# Altium footprint library 8通道刺激仪.PcbLib: 36 footprints (part 2 of 3)
Each footprint in its own frame and in the unit in brackets; x right, y up, seen from the top. Pads: shape width x height; smd on the part's side, far side on the other; paste and mask are expansions set on the pad; w line width, h text height; cw(c..) or ccw(c..) is an arc to the next point about the centre after c.
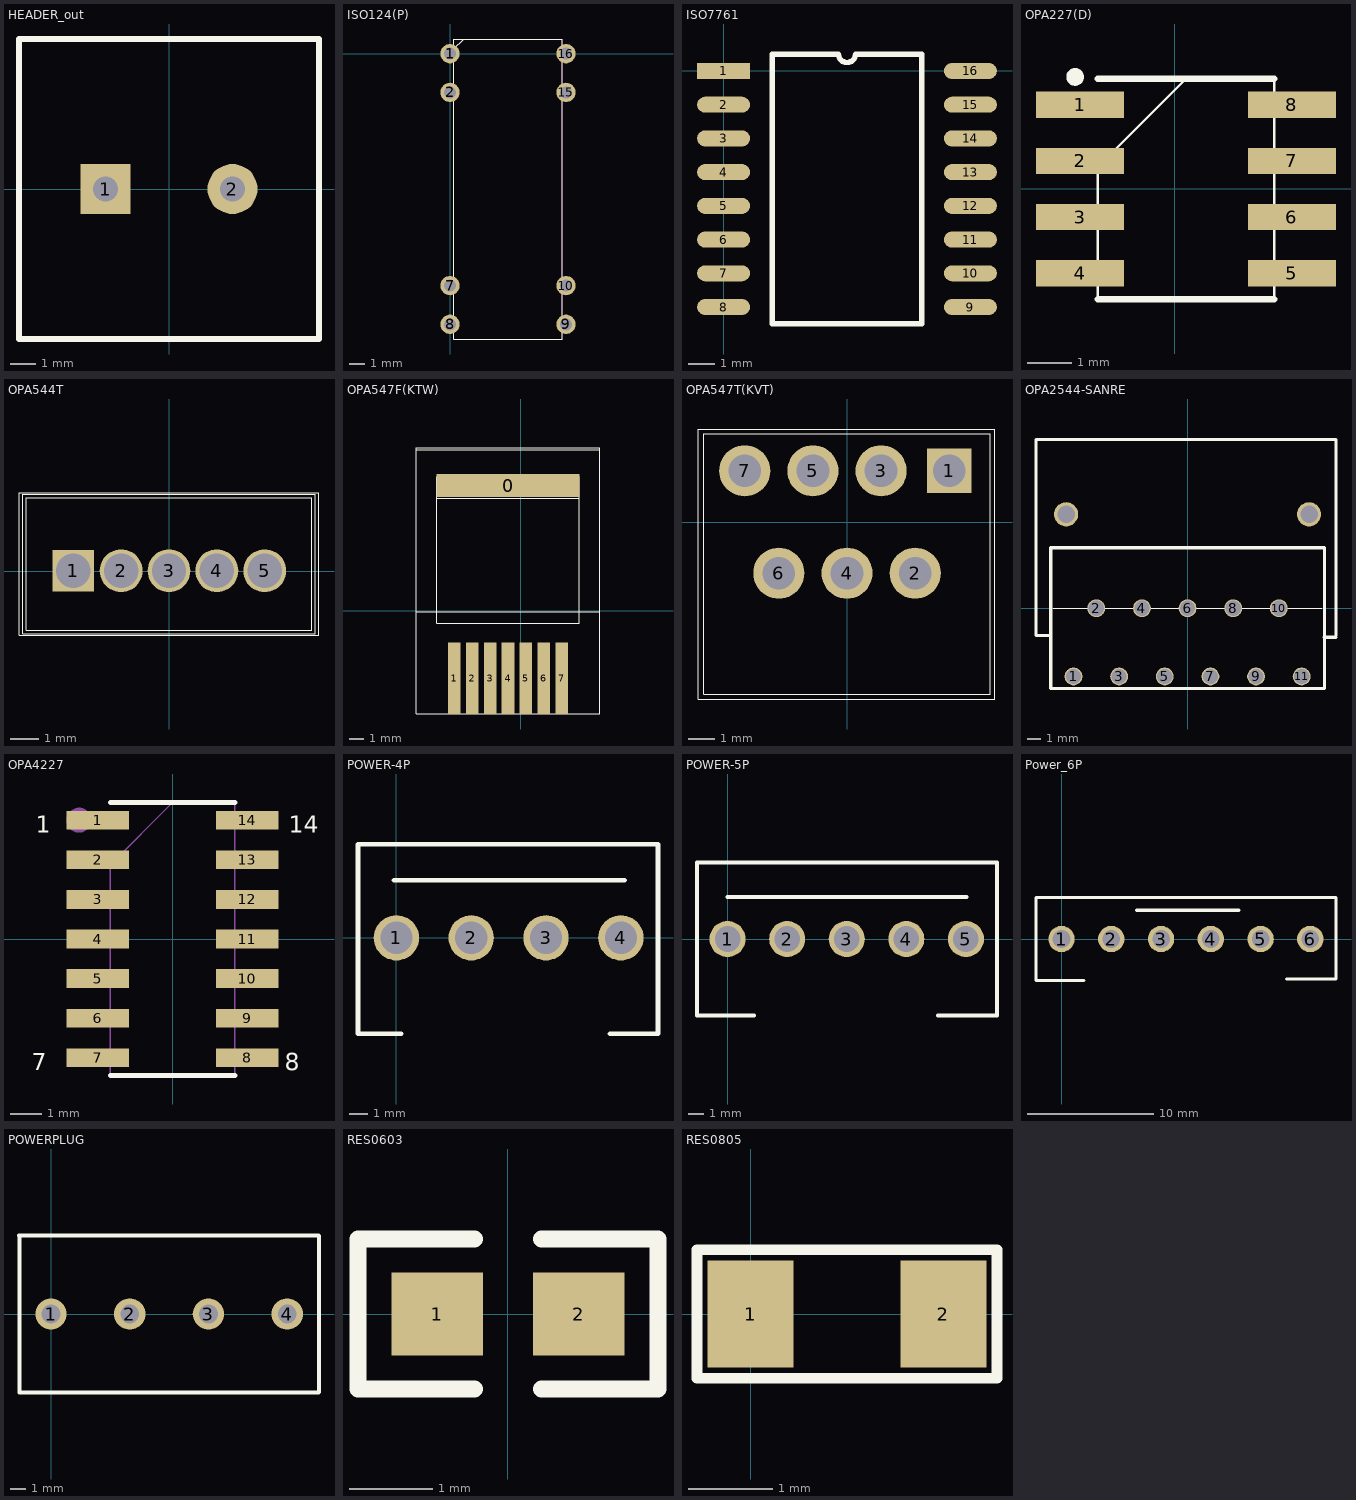
[diagram p1: the footprints below, top view; thin cyan lines are the x and y axes]

## HEADER_out [mm]
pads (2):
  rect 2x2 hole 1: 1(-2.54,0)
  round 2 hole 1: 2(2.54,0)
Top Overlay:
  lines w0.254: -6,-6 6,-6 6,6 -6,6 -6,-6

## ISO124(P) [mil]
pads (8):
  round 50 / inner round 0 / far side round 50 hole 31: 1(0,0) 2(0,-100) 7(0,-600) 8(0,-700) 9(300,-700) 10(300,-600) 15(300,-100) 16(300,0)
Mid-Layer 24:
  lines w10: 10,-738 10,13 35,38 290,38 290,-738 10,-738
Top Overlay:
  lines w1: 10,-738 10,38 290,38 ; 10,-738 290,-738 ; 10,-738 10,13 35,38 290,38 ; 10,-738 290,-738 ; 290,-738 290,38 ; 290,-738 290,38
Keep-Out Layer:
  lines w1: 10,-738 290,-738 290,38 10,38 10,-738

## ISO7761 [mm]
pads (16):
  rect 2x0.6 smd: 1(0,0)
  oval 2x0.6 smd: 2(0,-1.27) 3(0,-2.54) 4(0,-3.81) 5(0,-5.08) 6(0,-6.35) 7(0,-7.62) 8(0,-8.89) 9(9.3,-8.89) 10(9.3,-7.62) 11(9.3,-6.35) 12(9.3,-5.08) 13(9.3,-3.81) 14(9.3,-2.54) 15(9.3,-1.27) 16(9.3,0)
Top Overlay:
  lines w0.2: 1.835,-9.525 1.835,0.635 4.332,0.635 ccw(c4.65,0.635) 4.967,0.635 7.465,0.635 7.465,-9.525 1.835,-9.525

## OPA227(D) [mm]
pads (8):
  rect 2x0.6 smd paste-0.025 mask+0: 1(-2.146,1.905) 2(-2.146,0.635) 3(-2.146,-0.635) 4(-2.146,-1.905) 5(2.654,-1.905) 6(2.654,-0.635) 7(2.654,0.635) 8(2.654,1.905)
Top Overlay:
  circle w0.2: c-2.259,2.54 r0.1
  lines w0.05: -1.746,-2.5 -1.746,0.5 0.254,2.5 ; 2.254,-2.5 2.254,2.5
  lines w0.15: -1.746,-2.5 2.254,-2.5 ; -1.746,2.5 2.254,2.5
Mechanical 15:
  lines w0.05: -1.746,-2.5 2.254,-2.5 ; 0.254,2.5 2.254,2.5

## OPA544T [mil]
pads (5):
  rect 58x58 hole 48: 1(-134,0.5)
  round 60 hole 48: 2(-67,0.5) 3(0,0.5) 4(67,0.5) 5(134,0.5)
Mid-Layer 24:
  lines w10: -210,-92.5 -210,112.5 210,112.5 210,-92.5 -210,-92.5
Top Overlay:
  lines w1: -210,-90 -210,110 210,110 210,-90 -210,-90 ; -205,-87.5 -205,107.5 205,107.5 205,-87.5 -205,-87.5 ; -200,-82.5 -200,102.5 200,102.5 200,-82.5 -200,-82.5

## OPA547F(KTW) [mil]
pads (8):
  rect 400x64 smd: 0(-35,350)
  rect 35.4x200 smd: 1(-185,-187.9) 2(-135,-187.9) 3(-85,-187.9) 4(-35,-187.9) 5(15,-187.9) 6(65,-187.9) 7(115,-187.9)
Top Overlay:
  lines w0.4: -233.8,315.3 -233.8,375 163.8,375.2 163.8,315.3 ; -233.8,315.3 163.8,315.3 ; -233.8,315.3 -233.8,-34.7 163.8,-34.7 163.8,315.3 ; -290.9,-287.8 220.9,-287 220.9,455.3 -290.9,455.3 -290.9,-287.8 ; -290.9,-2.8 220.9,-2.8 220.9,449.9 -290.9,449.9 -290.9,-2.8

## OPA547T(KVT) [mil]
pads (7):
  rect 65x65 / inner round 0 / far side rect 65x65 hole 48: 1(150,75)
  round 75 / inner round 0 / far side round 75 hole 48: 2(100,-75) 3(50,75) 4(0,-75) 5(-50,75) 6(-100,-75) 7(-150,75)
Mid-Layer 24:
  lines w10: -220,-262.6 -220,139.4 220,139.4 220,-262.6 -220,-262.6
Top Overlay:
  lines w1: -218.1,-259.9 -218.1,135.9 216.7,135.9 216.7,-259.9 -218.1,-259.9 ; -210,-252.6 -210,129.4 210,129.4 210,-252.6 -210,-252.6

## OPA2544-SANRE [mil]
pads (13):
  round 52.4 hole 44.5: 1(-335,-200) 2(-268.1,0) 3(-201.1,-200) 4(-134.2,0) 5(-67.3,-200) 6(-0.4,0) 7(66.6,-200) 8(133.5,0) 9(200.4,-200) 10(267.4,0) 11(334.3,-200)
  round 70.87 hole 51.18: ""(-356.69,275.59) ""(355.91,275.59)
Top Overlay:
  lines w0.4: -394.1,0 393.3,0
  lines w10: -405,-80 -445,-80 -445,275 -445,495 435,495 435,-80 ; -401.9,178 -401.9,-235.4 401.2,-235.4 401.2,178 ; -400,177.17 400,177.17 ; 400,-85 435,-85

## OPA4227 [mm]
pads (14):
  rect 2x0.6 smd paste-0.025 mask+0: 1(-2.4,3.81) 2(-2.4,2.54) 3(-2.4,1.27) 4(-2.4,0) 5(-2.4,-1.27) 6(-2.4,-2.54) 7(-2.4,-3.81) 8(2.4,-3.81) 9(2.4,-2.54) 10(2.4,-1.27) 11(2.4,0) 12(2.4,1.27) 13(2.4,2.54) 14(2.4,3.81)
Top Overlay:
  lines w0.15: -2,-4.375 2,-4.375 ; -2,4.375 2,4.375
  text "1" at -4.39,3.41 h0.55
  text "7" at -4.508,-4.21 h0.55
  text "8" at 3.592,-4.21 h0.55
  text "14" at 3.727,3.41 h0.55
Mechanical 15:
  circle w0.4: c-3,3.81 r0.2
  lines w0.05: -2,-4.375 -2,2.375 0,4.375 2,4.375 2,-4.375 -2,-4.375

## PCBComponent_1 [mm]

## POWER-4P [mm]
pads (4):
  round 2.4 hole 1.7: 1(0,0) 2(3.96,0) 3(7.92,0) 4(11.88,0)
Top Overlay:
  lines w0.254: -0.127,3.048 12.065,3.048 ; 0.254,-5.08 -2.032,-5.08 -2.032,4.953 13.843,4.953 13.843,-5.08 11.303,-5.08

## POWER-5P [mm]
pads (5):
  round 2.4 hole 1.7: 1(0,0) 2(3.96,0) 3(7.92,0) 4(11.88,0) 5(15.84,0)
Top Overlay:
  lines w0.254: 0,2.794 15.875,2.794 ; 1.778,-5.08 -2.032,-5.08 -2.032,5.08 17.907,5.08 17.907,-5.08 13.97,-5.08

## Power_6P [mm]
pads (6):
  round 2.1 hole 1.4: 1(0,0) 2(3.96,0) 3(7.92,0) 4(11.88,0) 5(15.84,0) 6(19.8,0)
Top Overlay:
  lines w0.254: 1.778,-3.302 -2.032,-3.302 -2.032,3.302 21.844,3.302 21.844,-3.175 17.907,-3.175 ; 5.969,2.286 14.097,2.286

## POWERPLUG [mm]
pads (4):
  round 2 hole 1.2: 1(0,0) 2(5,0) 3(10,0) 4(15,0)
Top Overlay:
  lines w0.254: -2.032,5 17,5 ; -2,5 -2,-5 17,-5 ; 17.018,-4.953 17.018,4.953

## RES0603 [mm]
pads (2):
  rect 1.1x1 smd: 1(-0.85,0) 2(0.85,0)
Top Overlay:
  lines w0.2: -0.4,-0.9 -1.8,-0.9 -1.8,0.9 -0.4,0.9 ; 0.4,-0.9 1.8,-0.9 1.8,0.9 0.4,0.9

## RES0805 [mil]
pads (2):
  rect 40x50 smd: 1(0,0) 2(90,0)
Top Overlay:
  lines w5: -25,-30 115,-30 115,30 -25,30 -25,-30